# Altium footprint library PcbLib1.PcbLib: 25 footprints (part 1 of 2)
Each footprint in its own frame and in the unit in brackets; x right, y up, seen from the top. Pads: shape width x height; smd on the part's side, far side on the other; paste and mask are expansions set on the pad; w line width, h text height; cw(c..) or ccw(c..) is an arc to the next point about the centre after c.
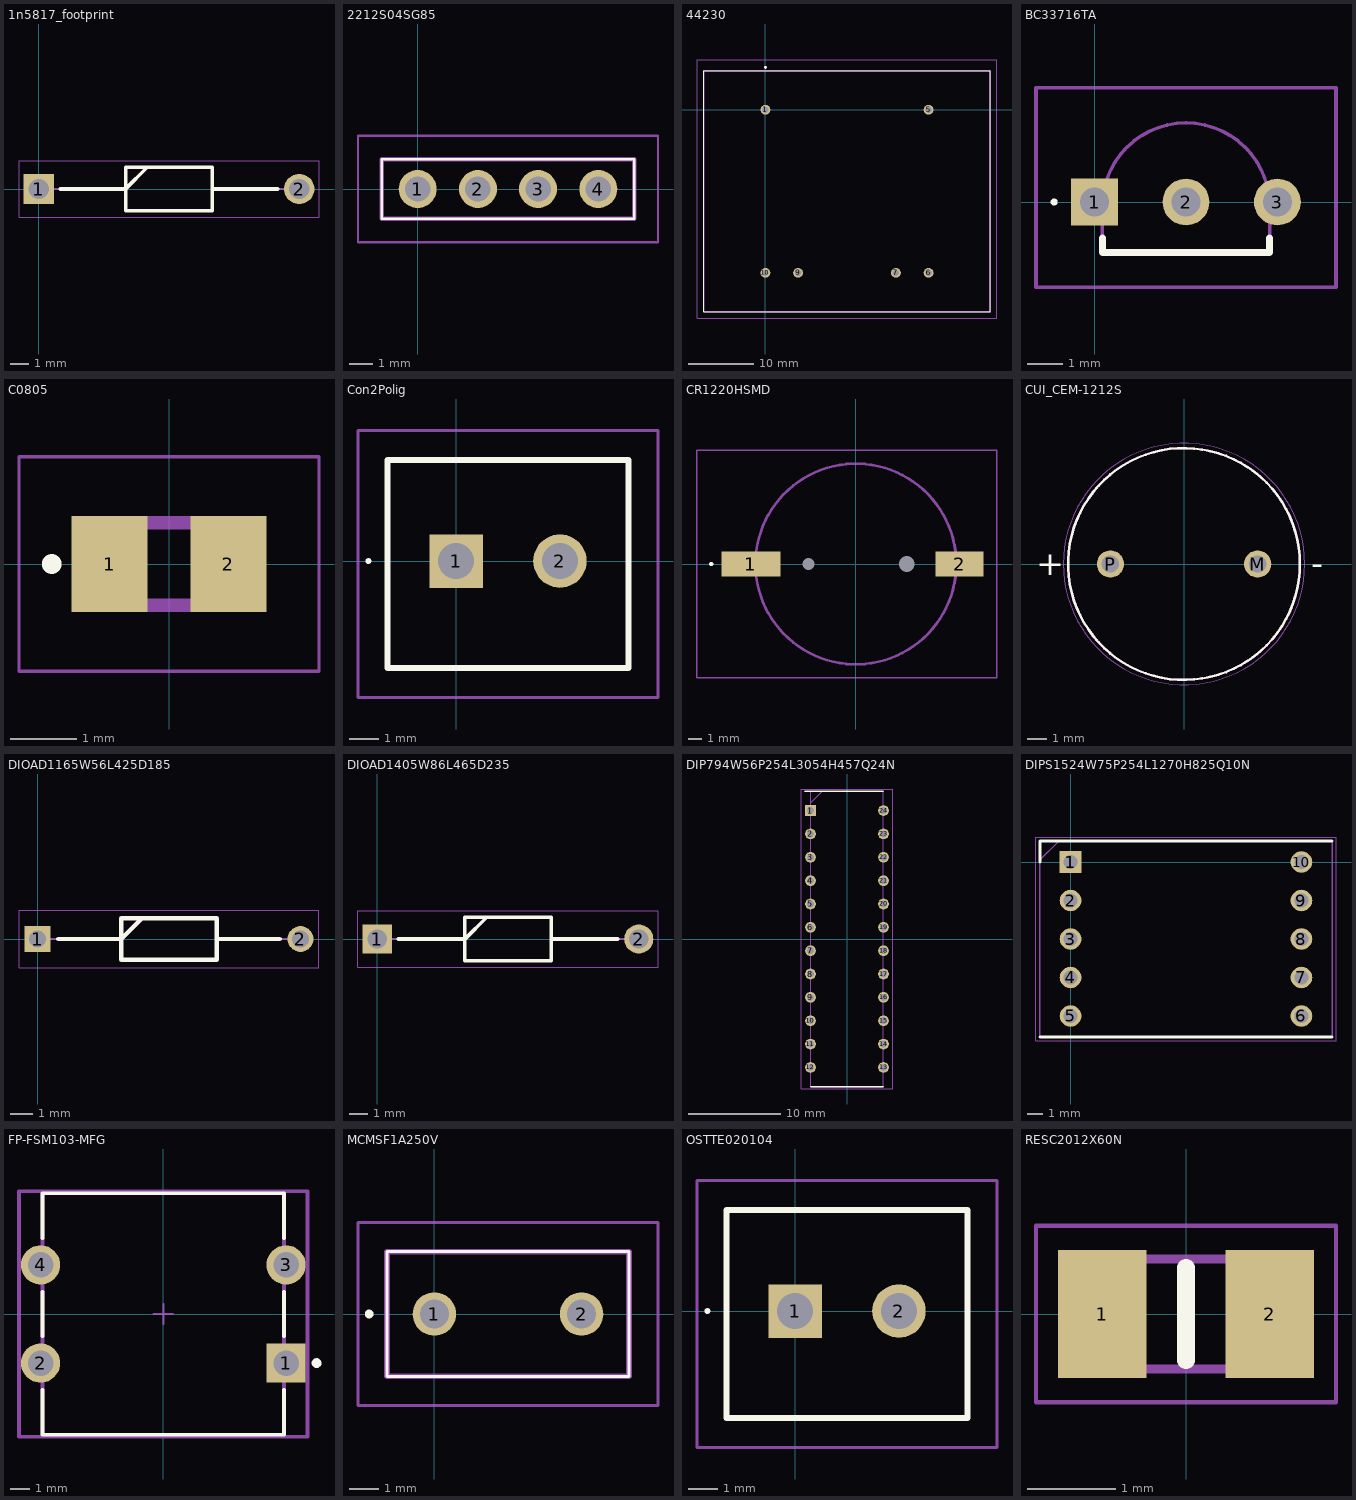
[diagram p0: the footprints below, top view; thin cyan lines are the x and y axes]

## 1n5817_footprint [mm]
pads (2):
  rect 1.65x1.65 hole 1.1: 1(0,0)
  round 1.65 hole 1.1: 2(14.1,0)
Top Overlay:
  lines w0.2: 1.175,0 4.7,0 5.875,1.175 ; 9.4,0 12.925,0 ; 4.7,-1.175 9.4,-1.175 9.4,1.175 4.7,1.175 4.7,-1.175
Mechanical 13:
  lines w0.1: 0,0 4.7,0 5.875,1.175 ; 9.4,0 14.1,0 ; 4.7,-1.175 9.4,-1.175 9.4,1.175 4.7,1.175 4.7,-1.175
Mechanical 15:
  lines w0.05: -1.075,-1.525 15.175,-1.525 15.175,1.525 -1.075,1.525 -1.075,-1.525
3D body "1N5817.stp": height 2.7, standoff -2.7, extent -0.45,-1.34 14.55,1.34

## 2212S04SG85 [mm]
pads (4):
  round 1.605 hole 1.07: 1(0,0) 2(2.54,0) 3(5.08,0) 4(7.62,0)
Top Overlay:
  lines w0.1: -1.52,-1.25 -1.52,1.25 9.14,1.25 9.14,-1.25 -1.52,-1.25
Mechanical 13:
  lines w0.2: -1.52,-1.25 -1.52,1.25 9.14,1.25 9.14,-1.25 -1.52,-1.25
Mechanical 15:
  lines w0.1: -2.52,-2.25 -2.52,2.25 10.14,2.25 10.14,-2.25 -2.52,-2.25
3D body "2212S-04SG-85.stp": height 8.8, standoff -5, extent -1.52,-1.25 9.14,1.25

## 44230 [mm]
pads (6):
  round 1.5 hole 1: 1(0,0) 5(25,0) 6(25,-25) 7(20,-25) 9(5,-25) 10(0,-25)
Top Overlay:
  lines w0.1: -9.5,-31 -9.5,6 34.5,6 34.5,-31 -9.5,-31
  lines w0.2: -0.1,6.5 cw(c0,6.5) 0.1,6.5 cw(c0,6.5) -0.1,6.5
Mechanical 13:
  lines w0.2: -9.5,-31 -9.5,6 34.5,6 34.5,-31 -9.5,-31
Mechanical 15:
  lines w0.1: -10.5,-32 -10.5,7.7 35.5,7.7 35.5,-32 -10.5,-32
3D body "44230.stp": height 32.3, standoff -5, extent -9.5,-31 34.5,6

## BC33716TA [mm]
pads (3):
  rect 1.333x1.333 hole 0.82: 1(0,0)
  round 1.333 hole 0.82: 2(2.6,0) 3(5.2,0)
Top Overlay:
  lines w0.1: -1.2,0 cw(c-1.15,0) -1.1,0 cw(c-1.15,0) -1.2,0
  lines w0.2: 0.22,-1.03 0.22,-1.43 4.98,-1.43 4.98,-1.03
Mechanical 13:
  lines w0.1: 0.22,-1.43 4.98,-1.43 4.98,-0.13 ccw(c2.6,-0.13) 0.22,-0.13 0.22,-1.43
Mechanical 15:
  lines w0.1: -1.666,-2.43 6.866,-2.43 6.866,3.25 -1.666,3.25 -1.666,-2.43
3D body "BC33716TA.stp": height 8.87, standoff -5, extent -0.31,-1.43 5.51,2.25

## C0805 [mm]
pads (2):
  rect 1.15x1.45 smd: 1(-0.9,0) 2(0.9,0)
Top Overlay:
  circle w0.2: c-1.778,0 r0.05
Mechanical 13:
  lines w0.2: -1,-0.625 1,-0.625 1,0.625 -1,0.625 -1,-0.625
Mechanical 15:
  lines w0.05: -2.275,-1.625 2.275,-1.625 2.275,1.625 -2.275,1.625 -2.275,-1.625
3D body "C0805C224K5RACTU.stp": height 1.4, standoff 0, extent -1.1,-0.73 1.1,0.72

## Con2Polig [mm] "2 polige schroefconnector"
pads (2):
  rect 1.8x1.8 hole 1.2: 1(0,0)
  round 1.8 hole 1.2: 2(3.5,0)
Top Overlay:
  lines w0.1: -3,0 ccw(c-2.95,0) -2.9,0 ccw(c-2.95,0) -3,0
  lines w0.2: -2.3,-3.6 5.8,-3.6 5.8,3.4 -2.3,3.4 -2.3,-3.6
Mechanical 13:
  lines w0.1: -2.3,-3.6 5.8,-3.6 5.8,3.4 -2.3,3.4 -2.3,-3.6
Mechanical 15:
  lines w0.1: -3.3,-4.6 6.8,-4.6 6.8,4.4 -3.3,4.4 -3.3,-4.6
3D body "OSTTE020104.stp": height 8.8, standoff -5, extent -2.3,-3.6 5.8,3.4

## CR1220HSMD [mm]
pads (4):
  rect 4.32x1.82 smd: 1(-7.73,0)
  rect 3.52x1.87 smd: 2(7.63,0)
  round 0.45 hole 0.9 unplated: MH1(-3.5,0)
  round 0.58 hole 1.16 unplated: MH2(3.75,0)
Top Overlay:
  lines w0.2: -10.7,0 ccw(c-10.65,0) -10.6,0 ; -10.7,0 cw(c-10.65,0) -10.6,0 ; -10.7,0 ccw(c-10.65,0) -10.6,0
Mechanical 13:
  lines w0.2: -7.39,0 ccw(c0,0) 7.39,0 ccw(c0,0) -7.39,0
Mechanical 15:
  lines w0.1: -11.7,-8.39 10.39,-8.39 10.39,8.39 -11.7,8.39 -11.7,-8.39
3D body "CR1220-H-SMD.stp": height 4.21, standoff -0.54, extent -9.597,-7.368 9.203,7.381

## CUI_CEM-1212S [mm]
pads (2):
  round 1.408 hole 0.9: M(3.81,0) P(-3.81,0)
Top Overlay:
  circle w0.127: c0,0 r6
  text "-" at 6.593,-0.571 h1.27
  text "+" at -7.662,-0.572 h1.27
Mechanical 13:
  circle w0.127: c0,0 r6
Mechanical 15:
  circle w0.05: c0,0 r6.25

## DIOAD1165W56L425D185 [mm]
pads (2):
  rect 1.15x1.15 hole 0.75: 1(0,0)
  round 1.15 hole 0.75: 2(11.7,0)
Top Overlay:
  lines w0.2: 0.925,0 3.725,0 4.65,0.925 ; 7.975,0 10.775,0 ; 3.725,-0.925 3.725,0.925 7.975,0.925 7.975,-0.925 3.725,-0.925
Mechanical 13:
  lines w0.1: 0,0 3.725,0 4.65,0.925 ; 7.975,0 11.7,0 ; 3.725,-0.925 3.725,0.925 7.975,0.925 7.975,-0.925 3.725,-0.925
Mechanical 15:
  lines w0.05: -0.825,-1.275 -0.825,1.275 12.525,1.275 12.525,-1.275 -0.825,-1.275

## DIOAD1405W86L465D235 [mm]
pads (2):
  rect 1.575x1.575 hole 1.05: 1(0,0)
  round 1.575 hole 1.05: 2(14.1,0)
Top Overlay:
  lines w0.2: 1.138,0 4.725,0 5.9,1.175 ; 9.375,0 12.962,0 ; 4.725,-1.175 9.375,-1.175 9.375,1.175 4.725,1.175 4.725,-1.175
Mechanical 13:
  lines w0.1: 0,0 4.725,0 5.9,1.175 ; 9.375,0 14.1,0 ; 4.725,-1.175 9.375,-1.175 9.375,1.175 4.725,1.175 4.725,-1.175
Mechanical 15:
  lines w0.05: -1.038,-1.525 15.137,-1.525 15.137,1.525 -1.038,1.525 -1.038,-1.525
3D body "1N4001.stp": height 2.7, standoff -2.7, extent -0.43,-1.34 14.48,1.34

## DIP794W56P254L3054H457Q24N [mm]
pads (24):
  rect 1.16x1.16 hole 0.76: 1(-3.97,13.97)
  round 1.16 hole 0.76: 2(-3.97,11.43) 3(-3.97,8.89) 4(-3.97,6.35) 5(-3.97,3.81) 6(-3.97,1.27) 7(-3.97,-1.27) 8(-3.97,-3.81) 9(-3.97,-6.35) 10(-3.97,-8.89) 11(-3.97,-11.43) 12(-3.97,-13.97) 13(3.97,-13.97) 14(3.97,-11.43) 15(3.97,-8.89) 16(3.97,-6.35) 17(3.97,-3.81) 18(3.97,-1.27) 19(3.97,1.27) 20(3.97,3.81) 21(3.97,6.35) 22(3.97,8.89) 23(3.97,11.43) 24(3.97,13.97)
Top Overlay:
  lines w0.2: -4.55,16.065 3.935,16.065 ; -3.935,-16.065 3.935,-16.065
Mechanical 13:
  lines w0.1: -3.935,14.795 -2.665,16.065 ; -3.935,-16.065 -3.935,16.065 3.935,16.065 3.935,-16.065 -3.935,-16.065
Mechanical 15:
  lines w0.05: -4.96,-16.315 -4.96,16.315 4.96,16.315 4.96,-16.315 -4.96,-16.315
3D body "MAX7219CNG.stp": height 4.57, standoff -3.5, extent -4.11,-15.272 4.11,15.272

## DIPS1524W75P254L1270H825Q10N [mm]
pads (10):
  rect 1.425x1.425 hole 0.95: 1(0,0)
  round 1.425 hole 0.95: 2(0,-2.54) 3(0,-5.08) 4(0,-7.62) 5(0,-10.16) 6(15.24,-10.16) 7(15.24,-7.62) 8(15.24,-5.08) 9(15.24,-2.54) 10(15.24,0)
Top Overlay:
  lines w0.2: -2.03,-11.555 17.27,-11.555 ; -2.03,0 -2.03,1.395 17.27,1.395
Mechanical 13:
  lines w0.1: -2.03,0.125 -0.76,1.395 ; -2.03,-11.555 -2.03,1.395 17.27,1.395 17.27,-11.555 -2.03,-11.555
Mechanical 15:
  lines w0.05: -2.28,-11.805 -2.28,1.645 17.52,1.645 17.52,-11.805 -2.28,-11.805

## FP-FSM103-MFG [mm]
pads (4):
  rect 2x2 hole 1.3 paste-2539.97 mask+0: 1(6.25,-2.5)
  round 2 hole 1.3 paste-2539.97 mask+0: 2(-6.25,-2.5) 3(6.25,2.5) 4(-6.25,2.5)
Top Overlay:
  circle w0.25: c7.8,-2.5 r0.125
  lines w0.2: -6.15,-3.875 -6.15,-6.15 6.15,-6.15 6.15,-3.875 ; -6.15,-1.125 -6.15,1.125 ; -6.15,3.875 -6.15,6.15 6.15,6.15 6.15,3.875 ; 6.15,-1.125 6.15,1.125
Top 3D Body:
  lines w0.2: -6.15,-6.15 -6.15,6.15 6.15,6.15 6.15,-6.15 -6.15,-6.15
Top Courtyard:
  lines w0.2: -7.35,-6.25 -7.35,6.25 7.35,6.25 7.35,-6.25 -7.35,-6.25
Top Assembly:
  lines w0.2: -7.35,-6.25 -7.35,6.25 7.35,6.25 7.35,-6.25 -7.35,-6.25
  text ".Designator" at 0,0.188 h1
Top Component Center:
  lines w0.1: -0.5,0 0.5,0 ; 0,-0.5 0,0.5
3D body "Switch_TE_Connectivity_FSM103_eec.STEP": height 0.25, standoff 0, extent -7.35,-6.25 7.35,6.25

## MCMSF1A250V [mm]
pads (2):
  round 1.5 hole 1: 1(0,0) 2(5.08,0)
Top Overlay:
  lines w0.1: -1.635,-2.15 -1.635,2.15 6.715,2.15 6.715,-2.15 -1.635,-2.15
  lines w0.2: -2.3,0 ccw(c-2.25,0) -2.2,0 ; -2.3,0 cw(c-2.25,0) -2.2,0 ; -2.3,0 ccw(c-2.25,0) -2.2,0
Mechanical 13:
  lines w0.2: -1.635,-2.15 -1.635,2.15 6.715,2.15 6.715,-2.15 -1.635,-2.15
Mechanical 15:
  lines w0.1: -2.635,-3.15 -2.635,3.15 7.715,3.15 7.715,-3.15 -2.635,-3.15
3D body "MCMSF_1A_250V.stp": height 7.8, standoff -5, extent -1.635,-2.15 6.715,2.15

## OSTTE020104 [mm]
pads (2):
  rect 1.8x1.8 hole 1.2: 1(0,0)
  round 1.8 hole 1.2: 2(3.5,0)
Top Overlay:
  lines w0.1: -3,0 cw(c-2.95,0) -2.9,0 cw(c-2.95,0) -3,0
  lines w0.2: -2.3,-3.6 -2.3,3.4 5.8,3.4 5.8,-3.6 -2.3,-3.6
Mechanical 13:
  lines w0.1: -2.3,-3.6 -2.3,3.4 5.8,3.4 5.8,-3.6 -2.3,-3.6
Mechanical 15:
  lines w0.1: -3.3,-4.6 -3.3,4.4 6.8,4.4 6.8,-4.6 -3.3,-4.6
3D body "OSTTE020104.stp": height 8.8, standoff -5, extent -2.3,-3.6 5.8,3.4

## RESC2012X60N [mm]
pads (2):
  rect 1x1.45 smd: 1(-0.95,0) 2(0.95,0)
Top Overlay:
  lines w0.2: 0,-0.525 0,0.525
Mechanical 13:
  lines w0.1: -1,-0.625 -1,0.625 1,0.625 1,-0.625 -1,-0.625
Mechanical 15:
  lines w0.05: -1.7,-1 -1.7,1 1.7,1 1.7,-1 -1.7,-1
3D body "CRCW08050000Z0EAHP.stp": height 0.6, standoff 0, extent -1,-0.625 1,0.625